# EAGLE library part TS3A5017 (library Analog Switch_MORISHITA)
TS3A5017 analog switch Producted by TEXAS INSTRUMENTS
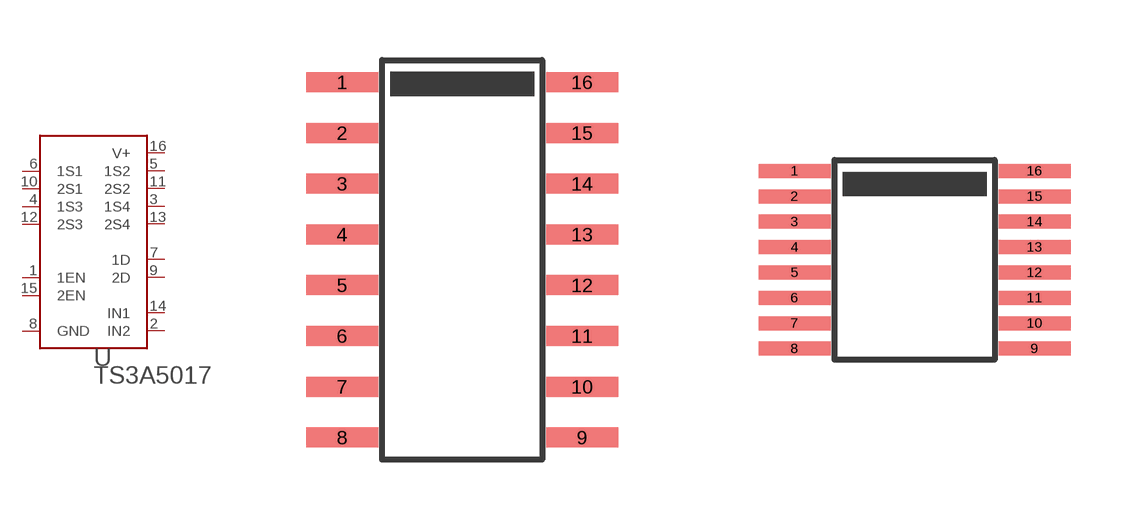
[diagram p0: symbol with the pads of D; footprints D, DBQ]

Designator prefix U

## TS3A5017-D  [D]
1  1EN  in
2  IN2  in
3  1S4
4  1S3
5  1S2
6  1S1
7  1D
8  GND  pwr
9  2D
10  2S1
11  2S2
12  2S3
13  2S4
14  IN1  in
15  2EN  in
16  V+  pwr

## TS3A5017-DBQ  [DBQ]
Pads as for D

## Footprint D (pad centres in mm)
TS3A5017 D package (R-PDSO-G16) TEXAS INSTRUMENTS 's plastic small-outline package
smd 1.8 x 0.5: 1 -3,4.445; 2 -3,3.175; 3 -3,1.905; 4 -3,0.635; 5 -3,-0.635; 6 -3,-1.905; 7 -3,-3.175; 8 -3,-4.445; 9 3,-4.445; 10 3,-3.175; 11 3,-1.905; 12 3,-0.635; 13 3,0.635; 14 3,1.905; 15 3,3.175; 16 3,4.445

## Footprint DBQ (pad centres in mm)
TS3A5017 DBQ package (R-PDSO-G16) TEXAS INSTRUMENTS 's plastic small-outline package
smd 1.8 x 0.35: 1 -3,2.223; 2 -3,1.587; 3 -3,0.953; 4 -3,0.318; 5 -3,-0.318; 6 -3,-0.953; 7 -3,-1.587; 8 -3,-2.223; 9 3,-2.223; 10 3,-1.587; 11 3,-0.953; 12 3,-0.318; 13 3,0.318; 14 3,0.953; 15 3,1.587; 16 3,2.223